# Altium schematic symbol library 06035A220JAT2A.SchLib: 1 symbol
Pins are listed as number, name and electrical type; pins without a type are passive.

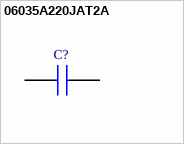
[diagram p0: symbol 06035A220JAT2A]

## 06035A220JAT2A
designator C?
0603 C0G ceramic capacitor,22pF 50V AVX 0603 Standard 22pF Ceramic Multilayer Capacitor, 50 V dc C0G Dielectric ??5% SMD; Geometry.Height: 0.9mm; Mouser Part Number: 581-06035A220J; Mouser Price/Stock: https://www.mouser.co.uk/ProductDetail/AVX/06035A220JAT2A?qs=WmCxkUxNecRe2%252BrYSa2zPg%3D%3D; Manufacturer_Name: AVX; Manufacturer_Part_Number: 06035A220JAT2A; Datasheet Link: http://datasheets.avx.com/C0GNP0-Dielectric.pdf
footprint CAPC1608X90N
pins: 1, 2